# Altium footprint library Connector Footprints.PcbLib: 65 footprints (part 1 of 5)
Each footprint in its own frame and in the unit in brackets; x right, y up, seen from the top. Pads: shape width x height; smd on the part's side, far side on the other; paste and mask are expansions set on the pad; w line width, h text height; cw(c..) or ccw(c..) is an arc to the next point about the centre after c.
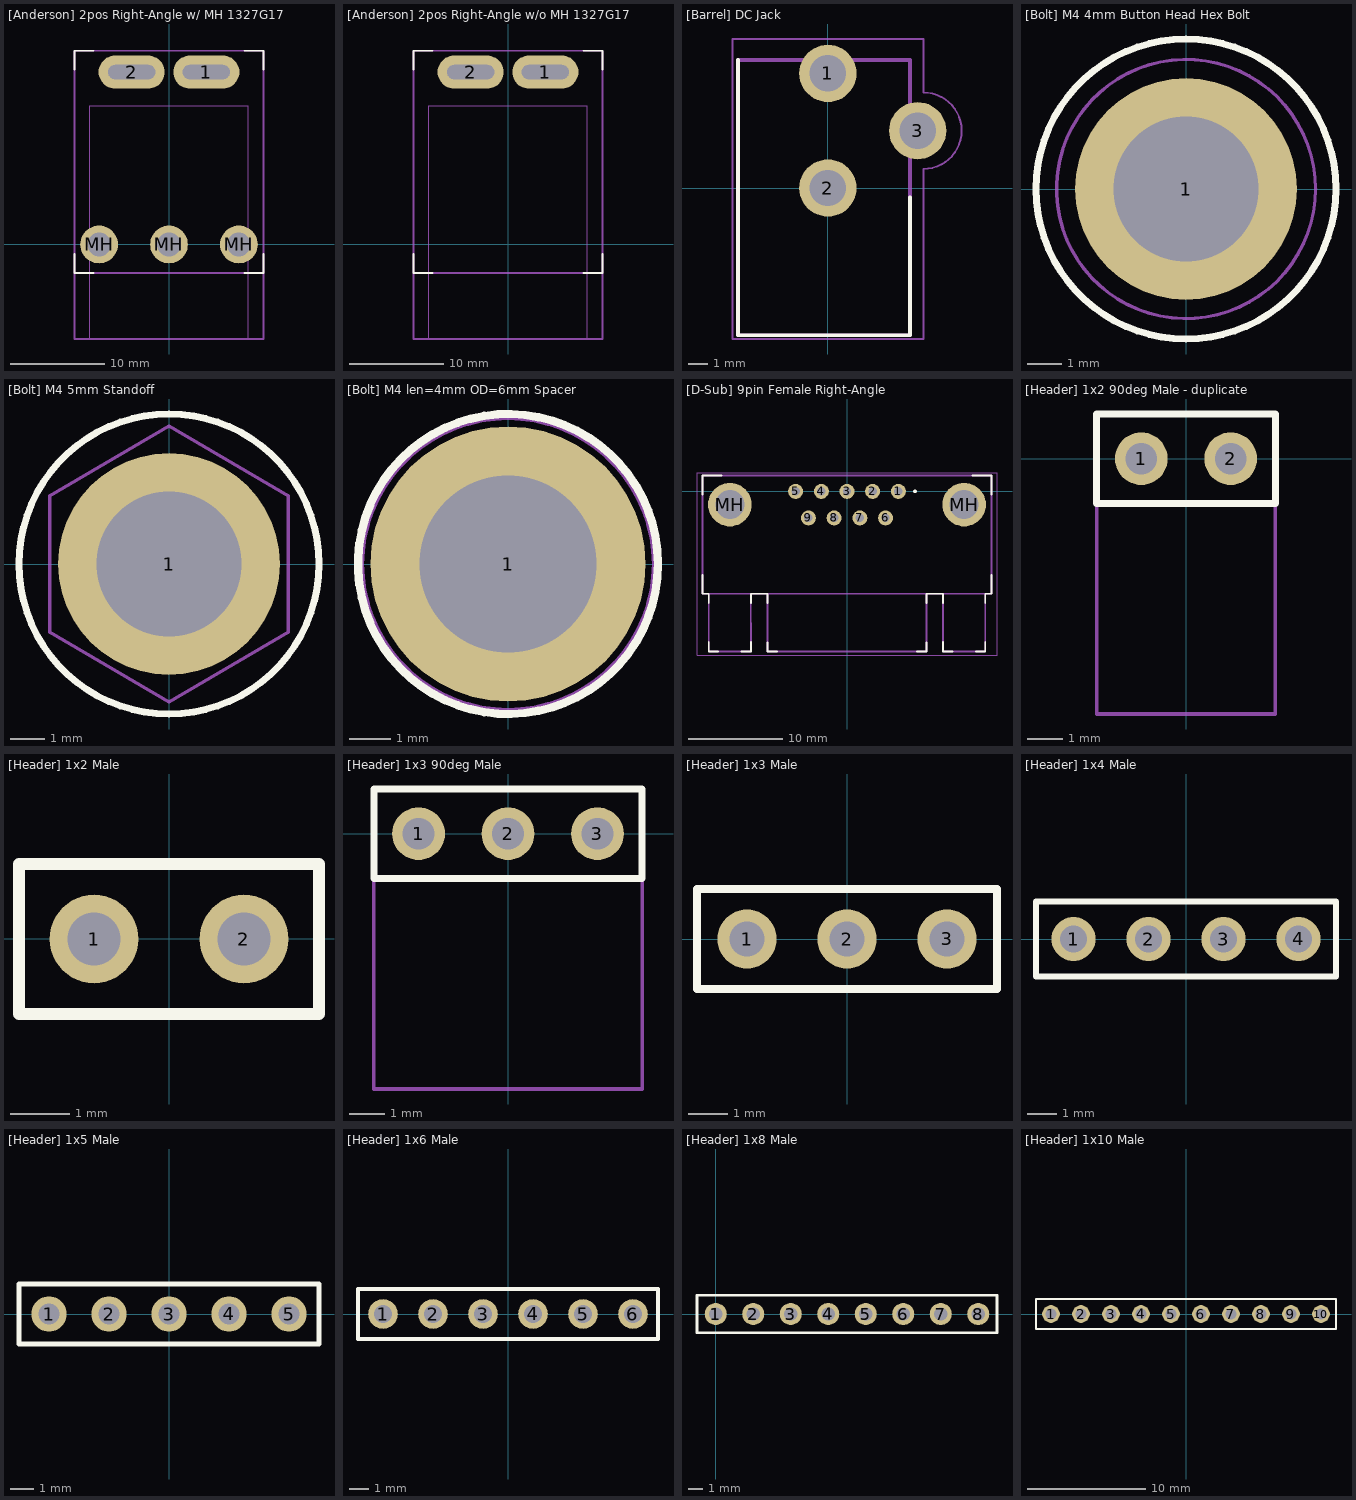
[diagram p0: the footprints below, top view; thin cyan lines are the x and y axes]

## [Anderson] 2pos Right-Angle w/ MH 1327G17 [mm]
pads (5):
  oval 7x3.5 hole 1.5 slot 5 at 0 deg: 1(3.95,18.24) 2(-3.95,18.24)
  round 4 hole 2.5: MH(-7.39,0) MH(0,0) MH(7.39,0)
Top Overlay:
  lines w0.2: -10,-1 -10,-3 -8,-3 ; -10,18.5 -10,20.5 -8,20.5 ; 8,-3 10,-3 10,-1 ; 8,20.5 10,20.5 10,18.5
Physical Drawing:
  lines w0.127: -8.4,-9.9 8.4,-9.9 8.4,14.7 -8.4,14.7 -8.4,-9.9
Part Outline:
  lines w0.2: -10,-3 10,-3 ; -10,-10 -10,20.5 10,20.5 10,-10 -10,-10
3D body "[Anderson] 1pos Right-Angle 1336G1.STEP": height 8.64, standoff -5.43, extent -0.254,-10.513 8.154,18.24
3D body "[Anderson] 1pos Right-Angle 1336G1.STEP": height 8.64, standoff -5.43, extent -8.154,-10.513 0.254,18.24

## [Anderson] 2pos Right-Angle w/o MH 1327G17 [mm]
pads (2):
  oval 7x3.5 hole 1.5 slot 5 at 0 deg: 1(3.95,18.24) 2(-3.95,18.24)
Top Overlay:
  lines w0.2: -10,-1 -10,-3 -8,-3 ; -10,18.5 -10,20.5 -8,20.5 ; 8,-3 10,-3 10,-1 ; 8,20.5 10,20.5 10,18.5
Physical Drawing:
  lines w0.127: -8.4,-9.9 -8.4,14.7 8.4,14.7 8.4,-9.9 -8.4,-9.9
Part Outline:
  lines w0.2: -10,-3 10,-3 ; -10,-10 10,-10 10,20.5 -10,20.5 -10,-10
3D body "[Anderson] 1pos Right-Angle 1336G1.STEP": height 8.64, standoff -5.43, extent -8.154,-10.513 0.254,18.24
3D body "[Anderson] 1pos Right-Angle 1336G1.STEP": height 8.64, standoff -5.43, extent -0.254,-10.513 8.154,18.24

## [Barrel] DC Jack [mm]
pads (3):
  round 3 hole 1.9: 1(0,6) 2(0,0) 3(4.7,3)
Top Overlay:
  lines w0.2: -4.7,6.7 -4.7,-7.7 4.3,-7.7 4.3,-0.5
Physical Drawing:
  lines w0.2: -4.7,-7.7 4.3,-7.7 4.3,6.7 -4.7,6.7 -4.7,-7.7
Part Outline:
  lines w0.1: -5,-7.9 -5,7.8 5,7.8 5,5 cw(c5,3) 5,1 5,-7.9 -5,-7.9
3D body "PJ-102A.stp": height 11.04, standoff -3.46, extent -4.42,-7.7 4.98,6.7

## [Bolt] M4 4mm Button Head Hex Bolt [mm]
pads (1):
  round 6.5 hole 4.25: 1(0,0)
Top Overlay:
  circle w0.2: c0,0 r4.4
  circle w0.2: c0,0 r4.4
Physical Drawing:
  circle w0.1: c0,0 r3.8
Part Outline:
  circle w0.1: c0,0 r4.4
3D body "M4 4mm Button Head Hex Bolt.STEP": height 2.45, standoff -3.75, extent -3.8,-3.8 3.8,3.8

## [Bolt] M4 5mm Standoff [mm] "971050474"
height 5
pads (1):
  round 6.5 hole 4.25: 1(0,0)
Top Overlay:
  circle w0.2: c0,0 r4.4
Bottom Overlay:
  circle w0.2: c0,0 r4.4
Physical Drawing:
  lines w0.1: -3.5,-2 -3.5,2 0,4.041 3.5,2 3.5,-2 0,-4.041 -3.5,-2
Part Outline:
  circle w0.1: c0,0 r4.4
3D body "[Standoff] M4 5mm.stp": height 5.25, standoff -7.75, extent -3.5,-4.041 3.5,4.041
3D body "M4 Nut.stp": height -0.55, standoff -3.75, extent -3.5,-4.041 3.5,4.041

## [Bolt] M4 len=4mm OD=6mm Spacer [mm]
pads (1):
  round 6.6 hole 4.25: 1(0,0)
Top Overlay:
  circle w0.2: c0,0 r3.6
Physical Drawing:
  circle w0.1: c0,0 r2
  circle w0.1: c0,0 r3
Part Outline:
  circle w0.1: c0,0 r3.5
3D body "[Bolt] M4 len=4mm OD=6mm Spacer.STEP": height 4, standoff 0, extent -3,-3 3,3

## [D-Sub] 9pin Female Right-Angle [mm] "LD09S33E4GV00LF"
pads (11):
  round 1.6 hole 0.9: 1(5.48,0) 2(2.74,0) 3(0,0) 4(-2.74,0) 5(-5.48,0) 6(4.11,-2.84) 7(1.37,-2.84) 8(-1.37,-2.84) 9(-4.11,-2.84)
  round 4.65 hole 3.1: MH(-12.495,-1.42) MH(12.495,-1.42)
Top Overlay:
  circle w0.2: c7.25,0 r0.1
  lines w0.2: -15.405,-8.92 -15.405,-10.92 -14.745,-10.92 -14.745,-11.92 ; -15.405,-0.32 -15.405,1.68 -13.405,1.68 ; -14.745,-16.07 -14.745,-17.07 -13.745,-17.07 ; -11.245,-17.07 -10.245,-17.07 -10.245,-16.07 ; -10.245,-11.92 -10.245,-10.92 -8.48,-10.92 -8.48,-11.92 ; -8.48,-16.09 -8.48,-17.09 -7.48,-17.09 ; 7.48,-17.09 8.48,-17.09 8.48,-16.09 ; 8.48,-11.92 8.48,-10.92 10.245,-10.92 10.245,-11.92 ; 10.245,-16.07 10.245,-17.07 11.245,-17.07 ; 13.405,1.68 15.405,1.68 15.405,-0.32 ; 13.745,-17.07 14.745,-17.07 14.745,-16.07 ; 14.745,-11.92 14.745,-10.92 15.405,-10.92 15.405,-8.92
Physical Drawing:
  lines w0.1: -14.745,-10.92 -14.745,-17.07 -10.245,-17.07 -10.245,-10.92 ; -8.48,-10.92 -8.48,-17.09 8.48,-17.09 8.48,-10.92 ; 10.245,-10.92 10.245,-17.07 14.745,-17.07 14.745,-10.92 ; -15.405,-10.92 15.405,-10.92 15.405,1.68 -15.405,1.68 -15.405,-10.92
  lines w0.2: -14.745,-10.92 -14.745,-17.07 -10.245,-17.07 -10.27,-10.92 ; -8.48,-10.92 -8.48,-17.09 8.48,-17.09 8.48,-10.92 ; 10.245,-10.92 10.245,-17.07 14.745,-17.07 14.745,-10.92 ; -15.405,-10.92 15.405,-10.92 15.405,1.68 -15.405,1.68 -15.405,-10.92
Part Outline:
  lines w0.1: -16,-17.5 16,-17.5 16,2 -16,2 -16,-17.5
3D body "LD09S33E4GV00LF.stp": height 12.03, standoff -3.72, extent -15.45,-17.08 15.45,1.67

## [Header] 1x2 90deg Male - duplicate [mm]
pads (2):
  round 1.5 hole 0.9: 1(-1.27,0) 2(1.27,0)
Top Overlay:
  lines w0.2: -2.54,-1.27 2.54,-1.27 2.54,1.27 -2.54,1.27 -2.54,-1.27
Bottom Overlay:
  lines w0.2: -2.54,-1.27 2.54,-1.27 2.54,1.27 -2.54,1.27 -2.54,-1.27
Part Outline:
  lines w0.1: -2.54,1.27 -2.54,-7.25 2.54,-7.25 2.54,1.27
3D body "1x2.step": height 4.3, standoff -3, extent -2.54,-7.18 2.54,1.27

## [Header] 1x2 Male [mm]
pads (2):
  round 1.5 hole 0.9: 1(-1.27,0) 2(1.27,0)
Top Overlay:
  lines w0.2: -2.54,-1.27 -2.54,1.27 2.54,1.27 2.54,-1.27 -2.54,-1.27
Bottom Overlay:
  lines w0.2: -2.54,-1.27 2.54,-1.27 2.54,1.27 -2.54,1.27 -2.54,-1.27
Part Outline:
  lines w0.1: -2.54,-1.27 2.54,-1.27 2.54,1.27 -2.54,1.27 -2.54,-1.27
3D body "Pin Header 1x2 TH Pitch 2.54mm.stp": height 9.5, standoff -3.2, extent -2.54,-1.27 2.54,1.27

## [Header] 1x3 90deg Male [mm]
pads (3):
  round 1.5 hole 0.9: 1(-2.54,0) 2(0,0) 3(2.54,0)
Top Overlay:
  lines w0.2: -3.81,-1.27 3.81,-1.27 3.81,1.27 -3.81,1.27 -3.81,-1.27
Bottom Overlay:
  lines w0.2: -3.81,-1.27 3.81,-1.27 3.81,1.27 -3.81,1.27 -3.81,-1.27
Part Outline:
  lines w0.1: -3.81,1.27 -3.81,-7.25 3.81,-7.25 3.81,1.27
3D body "1x3.step": height 4.3, standoff -3, extent -3.81,-7.18 3.81,1.27

## [Header] 1x3 Male [mm]
pads (3):
  round 1.5 hole 0.9: 1(-2.54,0) 2(0,0) 3(2.54,0)
Top Overlay:
  lines w0.2: -3.81,-1.27 -3.81,1.27 3.81,1.27 3.81,-1.27 -3.81,-1.27
Bottom Overlay:
  lines w0.2: -3.81,-1.27 3.81,-1.27 3.81,1.27 -3.81,1.27 -3.81,-1.27
Part Outline:
  lines w0.1: -3.81,-1.27 3.81,-1.27 3.81,1.27 -3.81,1.27 -3.81,-1.27
3D body "Pin Header 1x3 TH Pitch 2.54mm.stp": height 9.5, standoff -3.2, extent -3.81,-1.27 3.81,1.27

## [Header] 1x4 Male [mm] "2.54mm pitch"
pads (4):
  round 1.5 hole 0.9: 1(-3.81,0) 2(-1.27,0) 3(1.27,0) 4(3.81,0)
Top Overlay:
  lines w0.2: -5.08,-1.27 5.08,-1.27 5.08,1.27 -5.08,1.27 -5.08,-1.27
Bottom Overlay:
  lines w0.2: -5.08,-1.27 -5.08,1.27 5.08,1.27 5.08,-1.27 -5.08,-1.27
Part Outline:
  lines w0.1: -5.08,-1.27 -5.08,1.27 5.08,1.27 5.08,-1.27 -5.08,-1.27
3D body "Pin Header 1x4 TH Pitch 2.54mm.stp": height 9.5, standoff -3.2, extent -5.08,-1.27 5.08,1.27

## [Header] 1x5 Male [mm]
pads (5):
  round 1.5 hole 0.9: 1(-5.08,0) 2(-2.54,0) 3(0,0) 4(2.54,0) 5(5.08,0)
Top Overlay:
  lines w0.2: -6.35,-1.27 -6.35,1.27 6.35,1.27 6.35,-1.27 -6.35,-1.27
Bottom Overlay:
  lines w0.2: -6.35,-1.27 6.35,-1.27 6.35,1.27 -6.35,1.27 -6.35,-1.27
Part Outline:
  lines w0.1: -6.35,-1.27 6.35,-1.27 6.35,1.27 -6.35,1.27 -6.35,-1.27
3D body "Pin Header 1x5 TH Pitch 2.54mm.stp": height 9.5, standoff -3.2, extent -6.35,-1.27 6.35,1.27

## [Header] 1x6 Male [mm]
pads (6):
  round 1.5 hole 0.9: 1(-6.35,0) 2(-3.81,0) 3(-1.27,0) 4(1.27,0) 5(3.81,0) 6(6.35,0)
Top Overlay:
  lines w0.2: -7.62,-1.27 7.62,-1.27 7.62,1.27 -7.62,1.27 -7.62,-1.27
Bottom Overlay:
  lines w0.2: -7.62,-1.27 -7.62,1.27 7.62,1.27 7.62,-1.27 -7.62,-1.27
Part Outline:
  lines w0.1: -7.62,-1.27 -7.62,1.27 7.62,1.27 7.62,-1.27 -7.62,-1.27
3D body "Pin Header 1x6 TH Pitch 2.54mm.stp": height 9.5, standoff -3.2, extent -7.62,-1.27 7.62,1.27

## [Header] 1x8 Male [mm]
pads (8):
  round 1.5 hole 0.9: 1(0,0) 2(2.54,0) 3(5.08,0) 4(7.62,0) 5(10.16,0) 6(12.7,0) 7(15.24,0) 8(17.78,0)
Top Overlay:
  lines w0.2: -1.27,-1.27 -1.27,1.27 19.05,1.27 19.05,-1.27 -1.27,-1.27
Bottom Overlay:
  lines w0.2: -1.27,-1.27 19.05,-1.27 19.05,1.27 -1.27,1.27 -1.27,-1.27
Part Outline:
  lines w0.1: 19.05,-1.27 -1.27,-1.27 -1.27,1.27 19.05,1.27
3D body "Pin Header 1x8 TH Pitch 2.54mm.stp": height 9.5, standoff -3.2, extent -1.27,-1.27 19.05,1.27

## [Header] 1x10 Male [mm]
pads (10):
  round 1.5 hole 0.9: 1(-11.43,0) 2(-8.89,0) 3(-6.35,0) 4(-3.81,0) 5(-1.27,0) 6(1.27,0) 7(3.81,0) 8(6.35,0) 9(8.89,0) 10(11.43,0)
Top Overlay:
  lines w0.2: -12.7,-1.27 12.7,-1.27 12.7,1.27 -12.7,1.27 -12.7,-1.27
Bottom Overlay:
  lines w0.2: -12.7,-1.27 -12.7,1.27 12.7,1.27 12.7,-1.27 -12.7,-1.27
Part Outline:
  lines w0.1: -12.7,-1.27 -12.7,1.27 12.7,1.27 12.7,-1.27 -12.7,-1.27
3D body "Pin Header 1x10 TH Pitch 2.54mm.stp": height 9.5, standoff -3.2, extent -12.7,-1.27 12.7,1.27